# Altium schematic symbol library Eaton_Power_Inductors.SchLib: 2 symbols
Pins are listed as number, name and electrical type; pins without a type are passive.

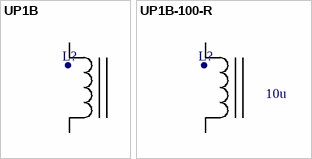
[diagram p0: symbols UP1B to UP1B-100-R]

## UP1B
designator L?  (value not drawn)
footprint UP1B
pins: 1, 2
text: .

## UP1B-100-R
designator L?  value 10u
Fixed Inductors 10uH 1.9A 0.1107ohms; Manufacturer: Coiltronics / Eaton; Manufacturer Part Number: UP1B-100-R; Type: High Current Inductor; Maximum DC Resistance: 110.7 mOhms; Core Material: Ferrite; Shielding: Unshielded; Tolerance: 20 %; Test Frequency: 100 kHz; Supplier 1: Mouser; Supplier 2: Digi-Key; Minimum Operating Temperature: - 40 C; Height: 5 mm; Maximum DC Current: 1.9 A; Product: Power Inductors; Length: 8.89 mm; Width: 6.1 mm; Series: UP1B; Maximum Operating Temperature: + 85 C; Termination Style: SMD/SMT; Inductance: 10 uH; Datasheet: http://www.mouser.com/ds/2/87/BUS_Elx_PM_4308_UNI_PAC_Power_Inductors-268242.pdf; Pricing: 1=1.35, 50=1.08, 100=1.03, 500=0.821, 900=0.612, 1800=0.558, 3600=0.549, 5400=0.540, 7200=0.531 (USD); Supplier Part Number 1: 704-UP1B-100-R; Supplier Part Number 2: 513-1180-6-ND
footprint UP1B
signal-integrity model UP1B-100-R
simulation model UP1B-100-R
pins: 1, 2
text: .